# EAGLE library part 050_610_?-15/30 (library con-sullinselectronics)
.050 DIP EDGE CARD CONNECTOR .050 [1.27mm] CONTACT CENTERS .610" INSULATEOR HEIGHT Source: .050 DIP EDGE CARD.pdf
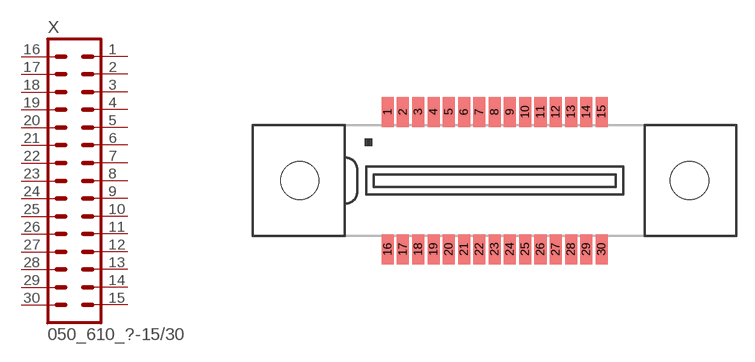
[diagram p4: symbol with the pads of 050_610_HF-15/30; footprint 050_610_HF-15/30]

Designator prefix X

## 050_610_HF-15/30 (OC_FARNELL: unknown; OC_NEWARK: unknown)  [050_610_HF-15/30]
1  1  pas
2  2  pas
3  3  pas
4  4  pas
5  5  pas
6  6  pas
7  7  pas
8  8  pas
9  9  pas
10  10  pas
11  11  pas
12  12  pas
13  13  pas
14  14  pas
15  15  pas
16  16  pas
17  17  pas
18  18  pas
19  19  pas
20  20  pas
21  21  pas
22  22  pas
23  23  pas
24  24  pas
25  25  pas
26  26  pas
27  27  pas
28  28  pas
29  29  pas
30  30  pas

## Footprint 050_610_HF-15/30 (pad centres in mm)
.050 DIP EDGE CARD CONNECTOR SURFACE MOUNT .050 [1.27mm] CONTACT CENTERS .610" INSULATEOR HEIGHT Source: .050 DIP EDGE CARD.pdf
smd 1 x 2.5: 1 -8.89,5.715; 2 -7.62,5.715; 3 -6.35,5.715; 4 -5.08,5.715; 5 -3.81,5.715; 6 -2.54,5.715; 7 -1.27,5.715; 8 0,5.715; 9 1.27,5.715; 10 2.54,5.715; 11 3.81,5.715; 12 5.08,5.715; 13 6.35,5.715; 14 7.62,5.715; 15 8.89,5.715; 16 -8.89,-5.715; 17 -7.62,-5.715; 18 -6.35,-5.715; 19 -5.08,-5.715; 20 -3.81,-5.715; 21 -2.54,-5.715; 22 -1.27,-5.715; 23 0,-5.715; 24 1.27,-5.715; 25 2.54,-5.715; 26 3.81,-5.715; 27 5.08,-5.715; 28 6.35,-5.715; 29 7.62,-5.715; 30 8.89,-5.715
hole 3.18 at -16.205,0
hole 3.18 at 16.205,0